# EAGLE library part PSC-4-XX (library ic)
PSC-4-xx: 4-way power splitter 0° (Mini-Circuits) Usable for all plug-in 4-way splitters with A01 case, e.g., PSC-4-6, PSC-4-1W
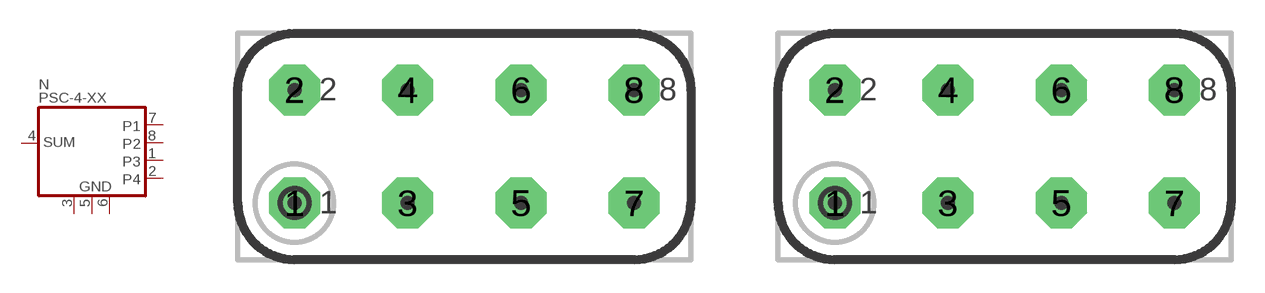
[diagram p69: symbol with the pads of MC-A01N; footprints MC-A01N, MC-A01G]

Designator prefix N

## PSC-4-XX  [MC-A01N]
1  P3
2  P4
3  GND  pwr
4  SUM
5  GND  pwr
6  GND  pwr
7  P1
8  P2

## PSC-4-XXG  [MC-A01G]
Pads as for MC-A01N

## Footprint MC-A01N (pad centres in mm)
Mini-Circuits A01 Metal case (20*10mm), 8 pins, Broken top plane
drill 0.991 pad 2.286 octagon: 1 -7.62,-2.54; 2 -7.62,2.54; 3 -2.54,-2.54; 4 -2.54,2.54; 5 2.54,-2.54; 6 2.54,2.54; 7 7.62,-2.54; 8 7.62,2.54

## Footprint MC-A01G (pad centres in mm)
Mini-Circuits A01 Metal case (20*10mm), 8 pins
drill 0.991 pad 2.286 octagon: 1 -7.62,-2.54; 2 -7.62,2.54; 3 -2.54,-2.54; 4 -2.54,2.54; 5 2.54,-2.54; 6 2.54,2.54; 7 7.62,-2.54; 8 7.62,2.54